# EAGLE library part SPH0645LM4H-B (library pimoroni-ics)
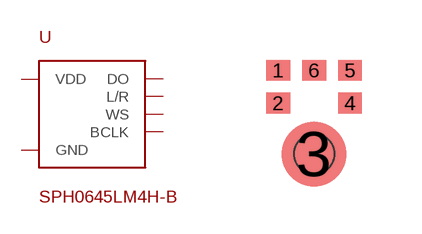
[diagram p57: symbol with the pads of SPH0645LM4H; footprint SPH0645LM4H]

Designator prefix -

## SPH0645LM4H-B  [SPH0645LM4H]
1  WS
2  L/R
3  GND
4  BCLK
5  VDD
6  DO

## Footprint SPH0645LM4H (pad centres in mm)
smd 0.6 x 0.52: 1 0.1,2; 2 0.1,1.18; 4 1.9,1.18; 5 1.9,2; 6 1,2
smd 1.624 x 1.624: 3 1,-0.1
hole 1 at 1,-0.1